# EAGLE library part MAX619 (library SteveMarple)
Regulated 5V charge pump DC-DC converter
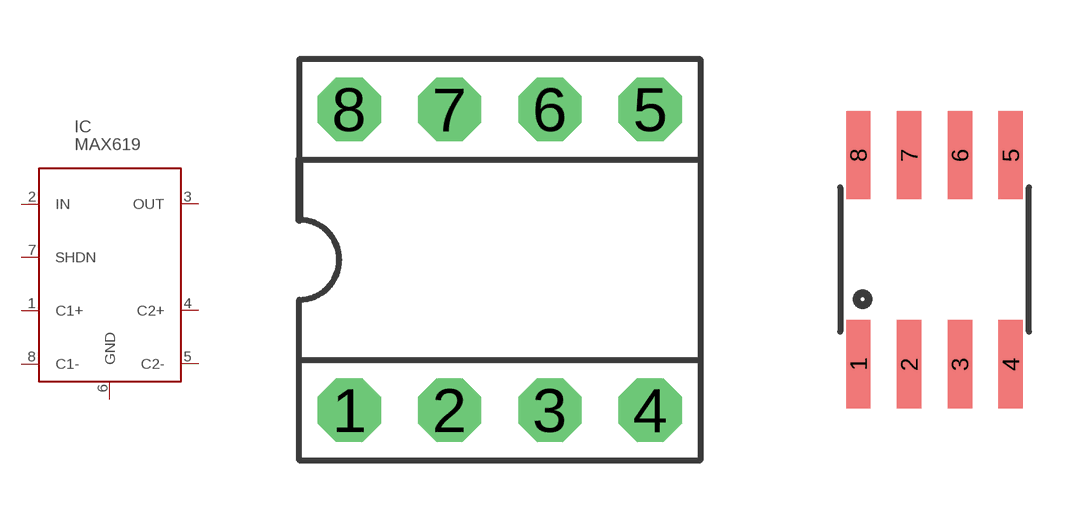
[diagram p14: symbol with the pads of DIL08; footprints DIL08, SO08]

Designator prefix IC

## MAX619DIL  [DIL08]
1  C1+
2  IN  pwr
3  OUT  pwr
4  C2+
5  C2-
6  GND  pwr
7  SHDN  in
8  C1-

## MAX619SOIC8  [SO08]
Pads as for DIL08

## MAX619DIL08/SOIC8  [DIL08-SOIC8]
1  C1+
1@1  C1+
2  IN  pwr
2@1  IN  pwr
3  OUT  pwr
3@1  OUT  pwr
4  C2+
4@1  C2+
5  C2-
5@1  C2-
6  GND  pwr
6@1  GND  pwr
7  SHDN  in
7@1  SHDN  in
8  C1-
8@1  C1-

## Footprint DIL08 (pad centres in mm)
drill 0.813 pad 1.6 octagon: 1 -3.81,-3.81; 2 -1.27,-3.81; 3 1.27,-3.81; 4 3.81,-3.81; 5 3.81,3.81; 6 1.27,3.81; 7 -1.27,3.81; 8 -3.81,3.81

## Footprint SO08 (pad centres in mm)
smd 0.61 x 2.21: 1 -1.905,-2.616; 2 -0.635,-2.616; 3 0.635,-2.616; 4 1.905,-2.616; 5 1.905,2.616; 6 0.635,2.616; 7 -0.635,2.616; 8 -1.905,2.616

## Footprint DIL08-SOIC8 (pad centres in mm)
drill 0.813 pad 1.6 octagon: 1 -3.81,-3.81; 2 -1.27,-3.81; 3 1.27,-3.81; 4 3.81,-3.81; 5 3.81,3.81; 6 1.27,3.81; 7 -1.27,3.81; 8 -3.81,3.81
smd 0.61 x 2.21: 1@1 -1.905,-6.426; 2@1 -0.635,-6.426; 3@1 0.635,-6.426; 4@1 1.905,-6.426; 5@1 1.905,-1.194; 6@1 0.635,-1.194; 7@1 -0.635,-1.194; 8@1 -1.905,-1.194